# Altium integrated library K60P144.IntLib: 15 symbols
Pins are listed as number, name and electrical type; pins without a type are passive.

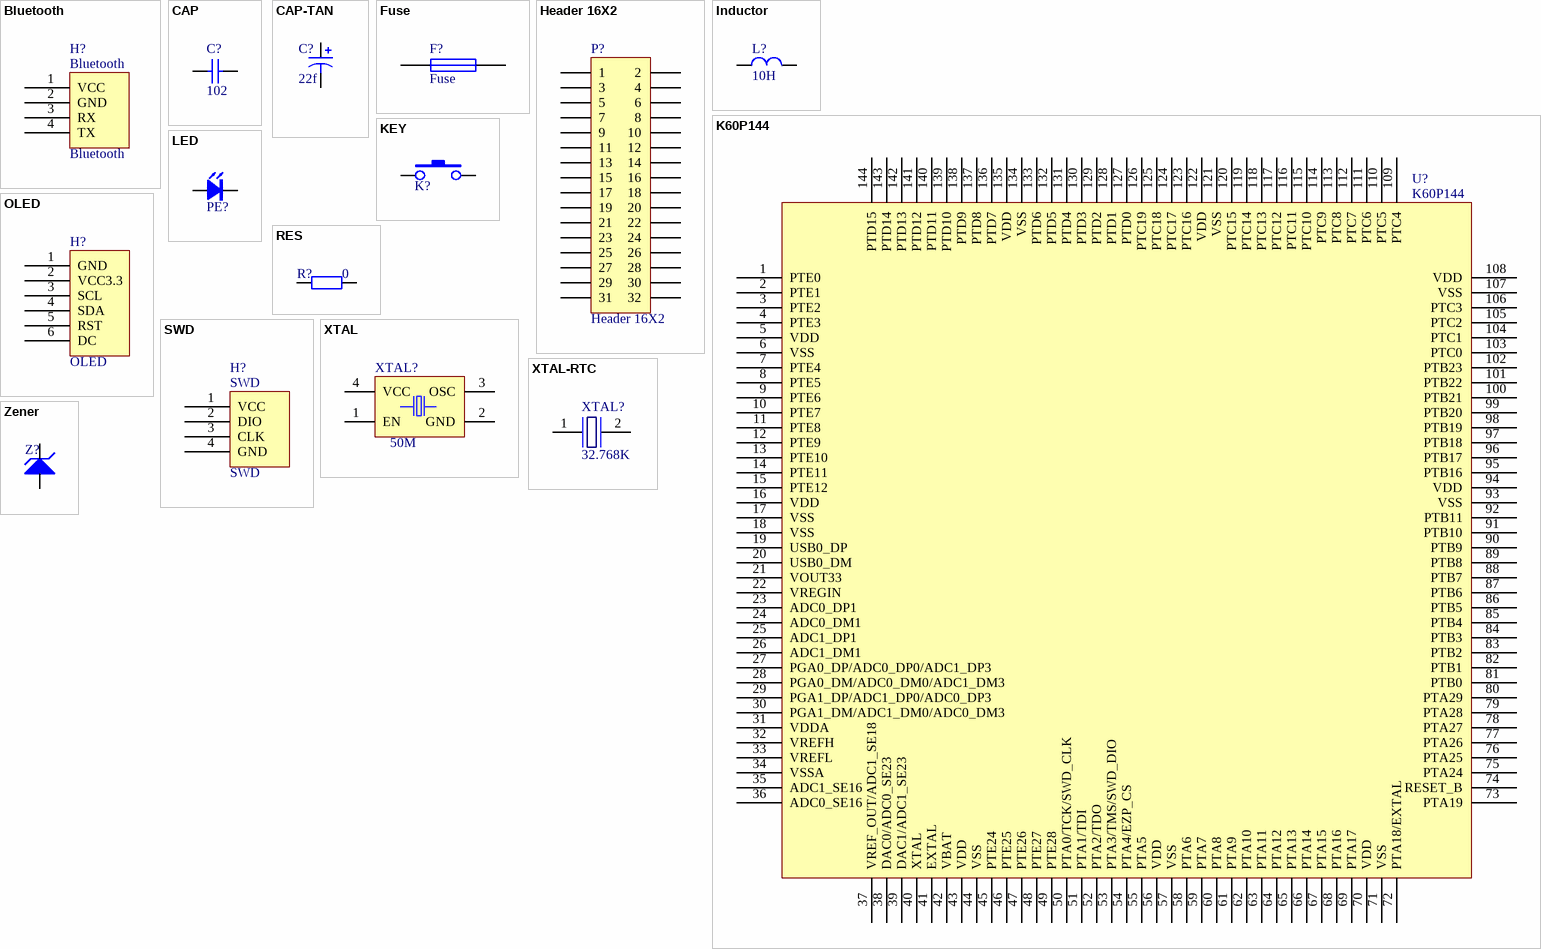
[diagram p0: symbols Bluetooth to Zener]

## Bluetooth
designator H?
footprint HDR4X1_A (Connector; Header; 4 Position)
footprint S0P4
pins: 1 VCC, 2 GND, 3 RX, 4 TX

## CAP
designator C?, comment 102
footprint 0805-0C
footprint 0805-1C
footprint Model Name (Footprint not found)
pins: 1, 2

## CAP-TAN
designator C?, comment 22f
footprint 3528-B-TA
footprint 6032-C-TA
footprint 7243-D-TA
footprint C3216 (A型/1206)
footprint C3528 (B型)
footprint C6032 (C型)
footprint C7343 (D型)
pins: 1, 2

## Fuse
designator F?
footprint 1206R
pins: 1, 2

## Header 16X2
designator P?
footprint IDC32-Z
footprint 201S2X16
pins: 1, 2, 3, 4, 5, 6, 7, 8, 9, 10, 11, 12, 13, 14, 15, 16, 17, 18, 19, 20, 21, 22, 23, 24, 25, 26, 27, 28, 29, 30, 31, 32

## Inductor
designator L?, comment 10H
Inductor
footprint CDRH4D
footprint CDRH3D
footprint CDRH5D
footprint 1210 (贴片元件)
footprint 1206C
pins: 1, 2

## K60P144
designator U?
footprint LQFP144
pins: 1 PTE0, 2 PTE1, 3 PTE2, 4 PTE3, 5 VDD, 6 VSS, 7 PTE4, 8 PTE5, 9 PTE6, 10 PTE7, 11 PTE8, 12 PTE9, 13 PTE10, 14 PTE11, 15 PTE12, 16 VDD, 17 VSS, 18 VSS, 19 USB0_DP, 20 USB0_DM, 21 VOUT33, 22 VREGIN, 23 ADC0_DP1, 24 ADC0_DM1, 25 ADC1_DP1, 26 ADC1_DM1, 27 PGA0_DP/ADC0_DP0/ADC1_DP3, 28 PGA0_DM/ADC0_DM0/ADC1_DM3, 29 PGA1_DP/ADC1_DP0/ADC0_DP3, 30 PGA1_DM/ADC1_DM0/ADC0_DM3, 31 VDDA, 32 VREFH, 33 VREFL, 34 VSSA, 35 ADC1_SE16, 36 ADC0_SE16, 37 VREF_OUT/ADC1_SE18, 38 DAC0/ADC0_SE23, 39 DAC1/ADC1_SE23, 40 XTAL, 41 EXTAL, 42 VBAT, 43 VDD, 44 VSS, 45 PTE24, 46 PTE25, 47 PTE26, 48 PTE27, 49 PTE28, 50 PTA0/TCK/SWD_CLK, 51 PTA1/TDI, 52 PTA2/TDO, 53 PTA3/TMS/SWD_DIO, 54 PTA4/EZP_CS, 55 PTA5, 56 VDD, 57 VSS, 58 PTA6, 59 PTA7, 60 PTA8, 61 PTA9, 62 PTA10, 63 PTA11, 64 PTA12, 65 PTA13, 66 PTA14, 67 PTA15, 68 PTA16, 69 PTA17, 70 VDD, 71 VSS, 72 PTA18/EXTAL, 73 PTA19, 74 RESET_B, 75 PTA24, 76 PTA25, 77 PTA26, 78 PTA27, 79 PTA28, 80 PTA29, 81 PTB0, 82 PTB1, 83 PTB2, 84 PTB3, 85 PTB4, 86 PTB5, 87 PTB6, 88 PTB7, 89 PTB8, 90 PTB9, 91 PTB10, 92 PTB11, 93 VSS, 94 VDD, 95 PTB16, 96 PTB17, 97 PTB18, 98 PTB19, 99 PTB20, 100 PTB21, 101 PTB22, 102 PTB23, 103 PTC0, 104 PTC1, 105 PTC2, 106 PTC3, 107 VSS, 108 VDD, 109 PTC4, 110 PTC5, 111 PTC6, 112 PTC7, 113 PTC8, 114 PTC9, 115 PTC10, 116 PTC11, 117 PTC12, 118 PTC13, 119 PTC14, 120 PTC15, 121 VSS, 122 VDD, 123 PTC16, 124 PTC17, 125 PTC18, 126 PTC19, 127 PTD0, 128 PTD1, 129 PTD2, 130 PTD3, 131 PTD4, 132 PTD5, 133 PTD6, 134 VSS, 135 VDD, 136 PTD7, 137 PTD8, 138 PTD9, 139 PTD10, 140 PTD11, 141 PTD12, 142 PTD13, 143 PTD14, 144 PTD15

## KEY
designator K?  (value not drawn)
按键
footprint SW_PB2_A1
pins: 1, 2

## LED
designator PE?  (value not drawn)
footprint 0805LED1
footprint 0805LED2
pins: 1 K, 2 A

## OLED
designator H?
footprint S0P6
pins: 1 GND, 2 VCC3.3, 3 SCL, 4 SDA, 5 RST, 6 DC

## RES
designator R?, comment 0
footprint 0603-r
footprint 0603R
pins: 1, 2

## SWD
designator H?
footprint HDR4X1_A (Connector; Header; 4 Position)
footprint S0P4
footprint 201R1X4
pins: 1 VCC, 2 DIO, 3 CLK, 4 GND

## XTAL
designator XTAL?, comment 50M
footprint XTAL-3225
pins: 1 EN, 2 GND, 3 OSC, 4 VCC (power)

## XTAL-RTC
designator XTAL?, comment 32.768K
footprint XTAL1-KHz-直插3
pins: 1 (power), 2

## Zener
designator Z?  (value not drawn)
footprint 1206 (贴片元件)
pins: 1 A, 2 K